# Altium schematic symbol library MINIBLDC.SchLib: 2 symbols
Pins are listed as number, name and electrical type; pins without a type are passive.

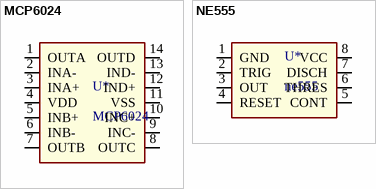
[diagram p0: symbols MCP6024 to NE555]

## MCP6024
designator U*
footprint SOP14_L (8.7*6.2*1.8mm（长宽高）)
pins: 1 OUTA, 2 INA-, 3 INA+, 4 VDD, 5 INB+, 6 INB-, 7 OUTB, 8 OUTC, 9 INC-, 10 INC+, 11 VSS, 12 IND+, 13 IND-, 14 OUTD

## NE555
designator U*, comment ne555
footprint SOP8_L (5*6*1.8mm（长宽高）)
pins: 1 GND, 2 TRIG, 3 OUT, 4 RESET, 5 CONT, 6 THRES, 7 DISCH, 8 VCC